# Altium footprint library Mainboard1.PcbLib: 17 footprints (part 1 of 2)
Each footprint in its own frame and in the unit in brackets; x right, y up, seen from the top. Pads: shape width x height; smd on the part's side, far side on the other; paste and mask are expansions set on the pad; w line width, h text height; cw(c..) or ccw(c..) is an arc to the next point about the centre after c.
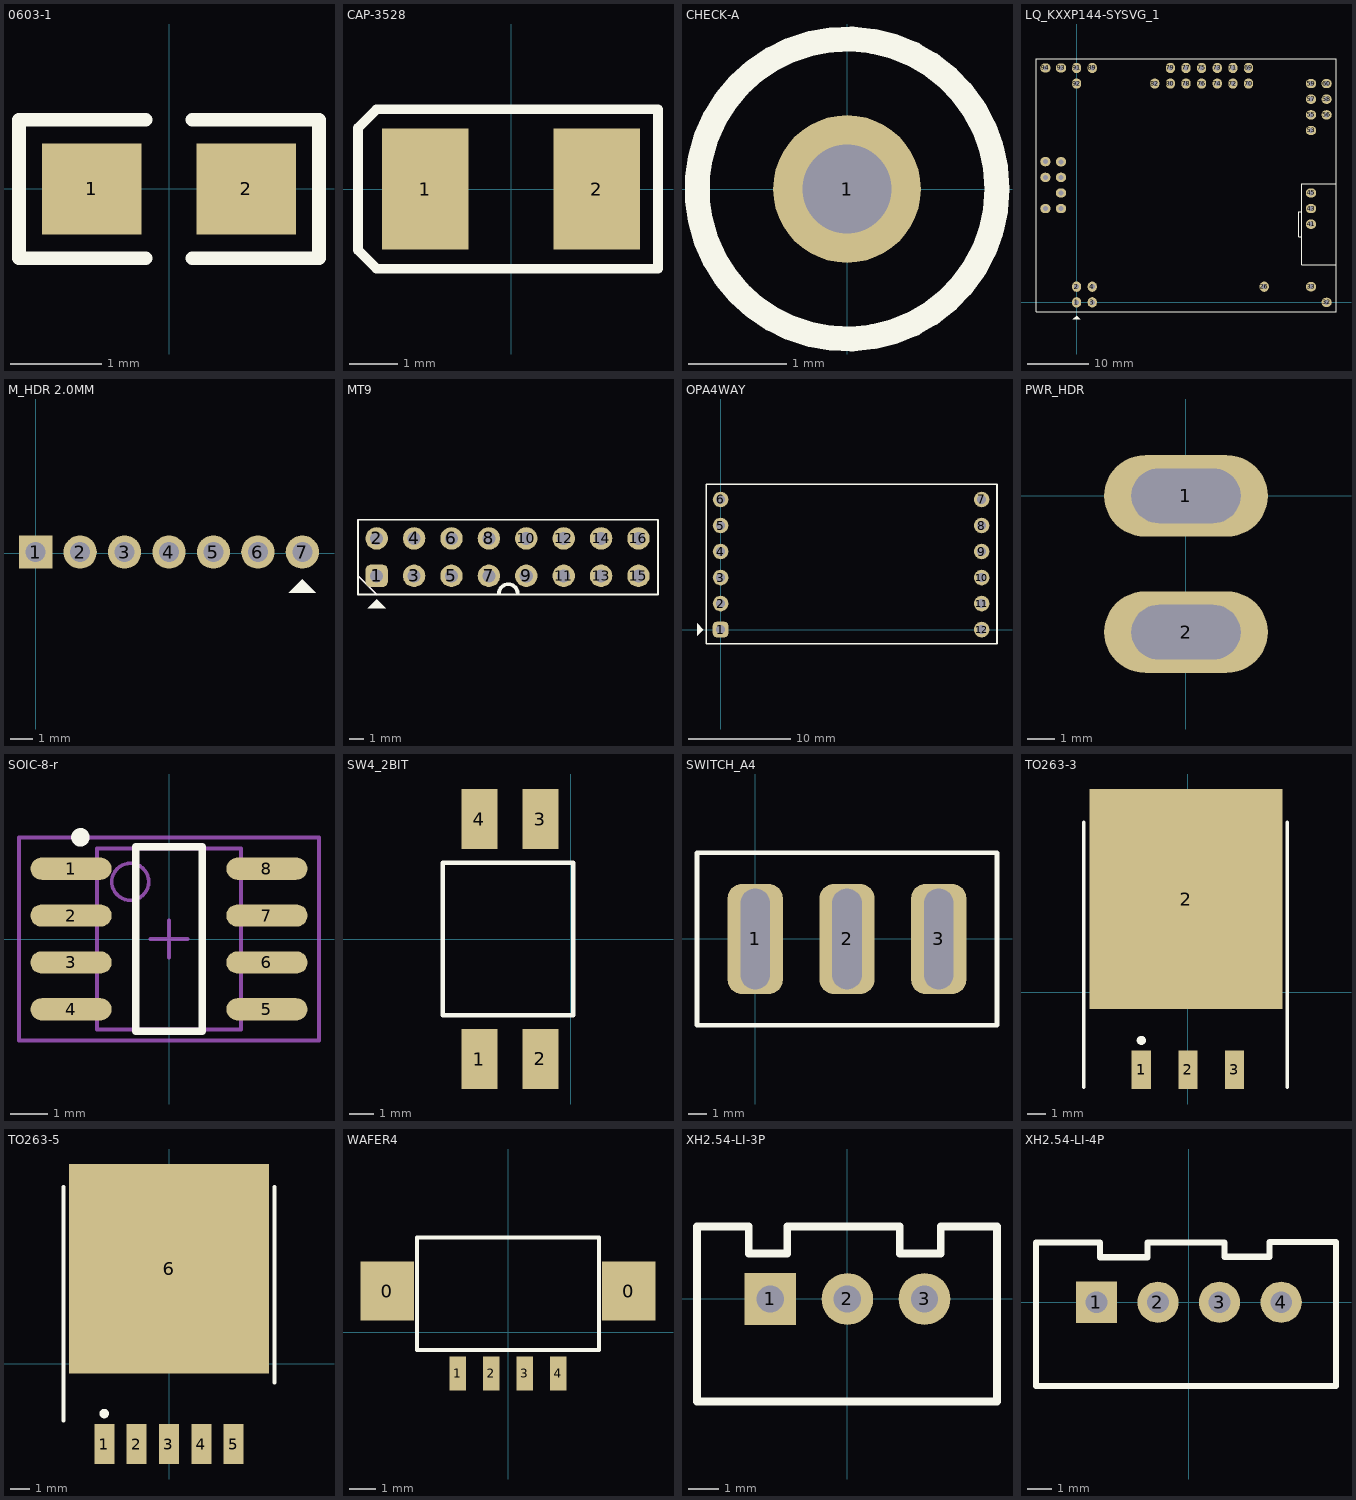
[diagram p0: the footprints below, top view; thin cyan lines are the x and y axes]

## 0603-1 [mm] "0603带丝印"
height 0.6
pads (2):
  rect 1.1x1 smd: 1(-0.85,0) 2(0.85,0)
Top Overlay:
  lines w0.15: -0.254,-0.762 -1.651,-0.762 -1.651,0.762 -0.254,0.762 ; 0.254,-0.762 1.651,-0.762 1.651,0.762 0.254,0.762
3D body "User Library-0603 SMD Resistor.STEP": height 0.3, standoff 0, extent -0.8,-0.4 0.8,0.4

## CAP-3528 [mm] "钽电容"
height 3
pads (2):
  rect 1.8x2.5 smd: 1(-1.778,0) 2(1.778,0)
Top Overlay:
  lines w0.2: -3.175,-1.27 -2.794,-1.651 -1.778,-1.651 1.775,-1.651 3.048,-1.651 3.048,1.651 1.778,1.651 -1.778,1.651 -2.794,1.651 -3.175,1.27 -3.175,-1.27
3D body: height 1, standoff 0, extent -1.905,-1.397 1.905,1.397
3D body: height 1.1, standoff 0, extent -1.778,-0.952 -1.524,0.953

## CHECK-A [mm] "测试点"
height 1.45
pads (1):
  round 1.5 hole 0.9: 1(0,0)
Top Overlay:
  circle w0.254: c0,0 r1.524

## LQ_KXXP144-SYSVG_1 [mil]
pads (42):
  oval 59x66 hole 32: 1(0,0) 2(0,100) 3(100,0) 4(100,100) 26(1200.39,100) 69(1100,1500) 70(1100,1400) 71(1000,1500) 72(1000,1400) 73(900,1500) 74(900,1400) 75(800,1500) 76(800,1400) 77(700,1500) 78(700,1400) 79(600,1500) 80(600,1400) 82(500,1400) 89(100,1500) 91(0,1500) 92(0,1400)
  oval 66x59 hole 32: 32(1600,0) 33(1500,100) 41(1500,500) 43(1500,600) 45(1500,700) 53(1500,1100) 55(1500,1200) 56(1600,1200) 57(1500,1300) 58(1600,1300) 59(1500,1400) 60(1600,1400) 93(-100,1500) 94(-200,1500) 105(-100,899.61) 106(-200,900.39) 107(-100,800) 108(-200,800) 109(-100,700) 111(-100,600) 112(-200,600)
Top Overlay:
  region: 0,-85.57 -23.75,-109.31 23.75,-109.31
  lines w5.91: 1440,420 1420,420 1420,580 1440,580 ; 1660,240 1440,240 1440,760 1660,760
  lines w7.87: -260,-60 -260,1560 1660,1560 1660,-60 -260,-60

## M_HDR 2.0MM [mm]
pads (7):
  rect 1.5x1.5 hole 0.9: 1(0,0.05)
  round 1.5 hole 0.9: 2(2,0.05) 3(4,0.05) 4(6,0.05) 5(8,0.05) 6(10,0.05) 7(12,0.05)
Top Overlay:
  region: 12,-1.173 11.397,-1.777 12.603,-1.777

## MT9 [mil]
pads (16):
  rrect50% 60x60 hole 35: 1(-47325,-47790.63)
  round 60 hole 35: 2(-47325,-47690.63) 3(-47225,-47790.63) 4(-47225,-47690.63) 5(-47125,-47790.63) 6(-47125,-47690.63) 7(-47025,-47790.63) 8(-47025,-47690.63) 9(-46925,-47790.63) 10(-46925,-47690.63) 11(-46825,-47790.63) 12(-46825,-47690.63) 13(-46725,-47790.63) 14(-46725,-47690.63) 15(-46625,-47790.63) 16(-46625,-47690.63)
Top Overlay:
  region: -47325,-47853.69 -47348.75,-47877.44 -47301.25,-47877.44
  lines w5: -47375,-47790.63 -47325,-47840.63 ; -47375,-47840.63 -46572.83,-47840.63 -46572.83,-47640.63 -47375,-47640.63 -47375,-47840.63
  lines w10: -46998.19,-47837.83 cw(c-46973.19,-47837.97) -46948.19,-47837.97
Mechanical 15:
  lines w5: -47375,-47840.63 -47375,-47640.63 ; -47375,-47790.63 -47325,-47840.63

## OPA4WAY [mil]
pads (12):
  rrect50% 60x60 hole 35: 1(0,0)
  round 60 hole 35: 2(0,100) 3(0,200) 4(0,300) 5(0,400) 6(0,500) 7(1003.94,500) 8(1003.94,400) 9(1003.94,300) 10(1003.94,200) 11(1003.94,100) 12(1003.94,0)
Top Overlay:
  region: -66.8,0 -90.55,23.75 -90.55,-23.75
  lines w5: -55.12,559.06 -55.12,-55.12 1062.99,-55.12
  lines w5.98: -55.12,559.06 1062.99,559.05 1062.99,-55.12

## PWR_HDR [mm]
height 8.2
pads (2):
  oval 6x3 hole 2 slot 4 at 0 deg: 1(0,0) 2(0,-5)

## SOIC-8-r [mm]
height 1.75
pads (8):
  oval 2.2x0.6 smd: 1(-2.654,1.905) 2(-2.654,0.635) 3(-2.654,-0.635) 4(-2.654,-1.905) 5(2.654,-1.905) 6(2.654,-0.635) 7(2.654,0.635) 8(2.654,1.905)
Top Overlay:
  circle w0.25: c-2.4,2.755 r0.125
  lines w0.2: -0.9,-2.5 0.9,-2.5 0.9,2.5 -0.9,2.5 -0.9,-2.5
Mechanical 13:
  circle w0.1: c-1.05,1.55 r0.5
  lines w0.1: -1.95,-2.45 1.95,-2.45 1.95,2.45 -1.95,2.45 -1.95,-2.45
Mechanical 15:
  lines w0.1: -0.5,0 0.5,0 ; 0,-0.5 0,0.5 ; -4.064,-2.75 4.064,-2.75 4.064,2.75 -4.064,2.75 -4.064,-2.75
3D body "SO-8.STEP": height 1.7, standoff 0, extent -3,-2.45 3,2.45

## SW4_2BIT [mm] "贴片拨码开关"
height 1.75
pads (4):
  rect 1.5x2.5 smd: 1(-3.81,-5) 2(-1.27,-5) 3(-1.27,5) 4(-3.81,5)
Top Overlay:
  lines w0.2: -5.334,-3.175 0.1,-3.175 0.1,3.175 -5.334,3.175 -5.334,-0.762 -5.334,-3.175
3D body: height 2.15, standoff 2.05, extent -2.032,-2.032 -0.508,-0.508
3D body: height 2.15, standoff 2.05, extent -4.572,0.889 -3.048,2.413
3D body: height 2.05, standoff 2, extent -2.032,-2.032 -0.508,2.413
3D body: height 2.05, standoff 2, extent -4.572,-2.032 -3.048,2.413
3D body: height 2, standoff 0, extent -5.207,-3.429 0,3.429

## SWITCH_A4 [mm]
height 2.54
pads (3):
  rrect50% 3x6 hole 1.6 slot 5.5 at 90 deg: 1(0,0) 2(5,0) 3(10,0)
Top Overlay:
  lines w0.254: -3.175,-4.699 13.175,-4.699 13.175,4.699 -3.175,4.699 -3.175,-4.699

## TO263-3 [mm] "LM2940/LM1086"
height 4.65
pads (4):
  rect 1.05x2.1 smd: 1(-2.54,-4.225) 2(0,-4.225) 3(2.54,-4.225)
  rect 10.5x12 smd: 2(-0.104,5.08)
Top Overlay:
  circle w0.25: c-2.54,-2.625 r0.125
  lines w0.2: -5.677,-5.175 -5.677,9.275 ; 5.423,-5.175 5.423,9.275
3D body: height 0.8, standoff 0, extent 2.032,-4.699 3.048,-1.778
3D body: height 0.8, standoff 0, extent -0.508,-4.699 0.508,-1.778
3D body: height 0.8, standoff 0, extent -3.048,-4.699 -2.032,-1.778
3D body: height 1.6, standoff 0, extent -5.461,-1.778 5.207,9.271

## TO263-5 [mm] "贴片LM2596"
height 4.65
pads (6):
  rect 1.05x2.1 smd: 1(-3.4,-4.225) 2(-1.7,-4.225) 3(0,-4.225) 4(1.7,-4.225) 5(3.4,-4.225)
  rect 10.5x11 smd: 6(0,4.987)
Top Overlay:
  circle w0.25: c-3.4,-2.625 r0.125
  lines w0.2: -5.55,-3 -5.55,9.275 ; 5.55,-1 5.55,9.275
3D body: height 0.6, standoff 0, extent 2.921,-4.699 3.81,-0.508
3D body: height 0.6, standoff 0, extent 1.27,-4.699 2.159,-0.508
3D body: height 0.6, standoff 0, extent -0.508,-4.699 0.381,-0.508
3D body: height 0.6, standoff 0, extent -2.159,-4.699 -1.27,-0.508
3D body: height 0.6, standoff 0, extent -3.81,-4.699 -2.921,-0.508
3D body: height 1, standoff 0, extent -5.334,9.271 5.334,10.287
3D body: height 3, standoff 0, extent -5.334,-0.508 5.334,9.271

## WAFER4 [mm]
height 15
pads (6):
  rect 2x2.2 smd: 0(-4.5,1.537) 0(4.5,1.538)
  rect 0.6x1.27 smd: 1(-1.875,-1.537) 2(-0.625,-1.538) 3(0.625,-1.538) 4(1.875,-1.538)
Top Overlay:
  lines w0.152: -3.4,-0.662 3.4,-0.663 3.4,3.537 -3.4,3.538 -3.4,-0.662

## XH2.54-LI-3P [mm] "接插件，3P"
pads (3):
  rect 1.7x1.7 hole 0.9: 1(-2.54,0)
  round 1.7 hole 0.9: 2(0,0) 3(2.54,0)
Top Overlay:
  lines w0.254: -4.953,-3.378 4.928,-3.378 4.928,2.388 3.073,2.388 3.073,1.5 1.727,1.5 1.727,2.388 -1.981,2.388 -1.981,1.5 -3.251,1.5 -3.251,2.388 -4.953,2.388 -4.953,-3.378
3D body "XH2.54-3P.STEP": height 7.03, standoff -2.47, extent -5.04,-3.3 5.04,2.4

## XH2.54-LI-4P [mm] "接插件，4P"
pads (4):
  rect 1.7x1.7 hole 0.9: 1(-3.81,0)
  round 1.7 hole 0.9: 2(-1.27,0) 3(1.27,0) 4(3.81,0)
Top Overlay:
  lines w0.254: -6.299,-3.454 -6.299,2.464 -3.658,2.464 -3.658,1.854 -1.702,1.854 -1.702,2.464 1.473,2.464 1.473,1.88 3.327,1.88 3.327,2.489 6.071,2.489 6.071,-3.454 -6.299,-3.454
3D body "XH2.54-4P.STEP": height 7.03, standoff -2.47, extent -6.31,-3.3 6.31,2.4